# EAGLE library part FUTURLEC_SMALL_7SEG_4DIGIT_CC (library Evan)
Futurlec 0.36" Common Cathode 4-Digit 7-Segment LED Display
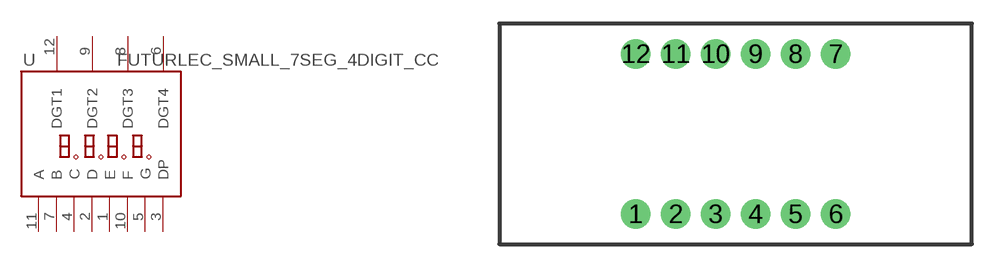
[diagram p2: symbol with the pads of FUTURLEC_SMALL_7SEG_4DIGIT_CC; footprint FUTURLEC_SMALL_7SEG_4DIGIT_CC]

Designator prefix -

## FUTURLEC_SMALL_7SEG_4DIGIT_CC0.36"  [FUTURLEC_SMALL_7SEG_4DIGIT_CC]
1  E
2  D
3  DP
4  C
5  G
6  DGT4
7  B
8  DGT3
9  DGT2
10  F
11  A
12  DGT1

## Footprint FUTURLEC_SMALL_7SEG_4DIGIT_CC (pad centres in mm)
drill 1.016 pad 1.88 round: 1 -6.35,-5.08; 2 -3.81,-5.08; 3 -1.27,-5.08; 4 1.27,-5.08; 5 3.81,-5.08; 6 6.35,-5.08; 7 6.35,5.08; 8 3.81,5.08; 9 1.27,5.08; 10 -1.27,5.08; 11 -3.81,5.08; 12 -6.35,5.08